# Altium footprint library SOT0873-1.PcbLib: 1 footprints
Each footprint in its own frame and in the unit in brackets; x right, y up, seen from the top. Pads: shape width x height; smd on the part's side, far side on the other; paste and mask are expansions set on the pad; w line width, h text height; cw(c..) or ccw(c..) is an arc to the next point about the centre after c.
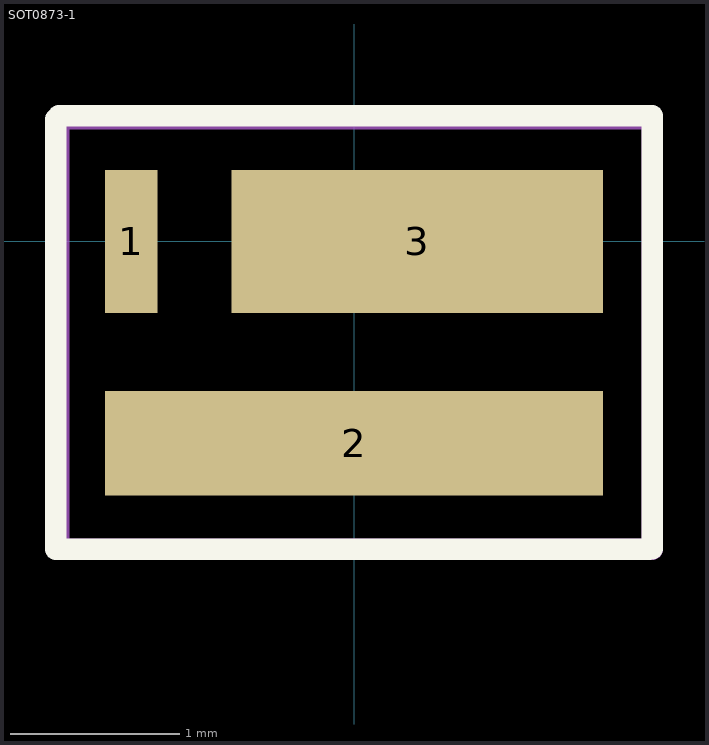
[diagram p0: the footprint, top view; thin cyan lines are the x and y axes]

## SOT0873-1 [mm]
pads (3):
  rect 0.31x0.85 smd: 1(-1.32,0)
  rect 2.95x0.62 smd: 2(0,-1.195)
  rect 2.2x0.85 smd: 3(0.375,0)
Top Overlay:
  lines w0.127: 1.75,-1.823 -1.768,-1.823 -1.768,0.726 -1.75,0.744 1.768,0.744 1.768,-1.82
Assembly Top:
  lines w0.127: -1.75,-1.823 -1.75,0.728 1.768,0.728 1.768,-1.823 -1.75,-1.823
Top Courtyard:
  lines w0.05: -1.75,-1.823 1.75,-1.823 1.75,0.729 -1.75,0.729 -1.75,-1.823
3D body "SOT8073-1.step": height 0.77, standoff 0, extent -1.6,-1.65 1.6,0.55